# EAGLE library part YH-55-10 (library lpatiny)
RJ11 6 connects Source: YH-55-10.pdf
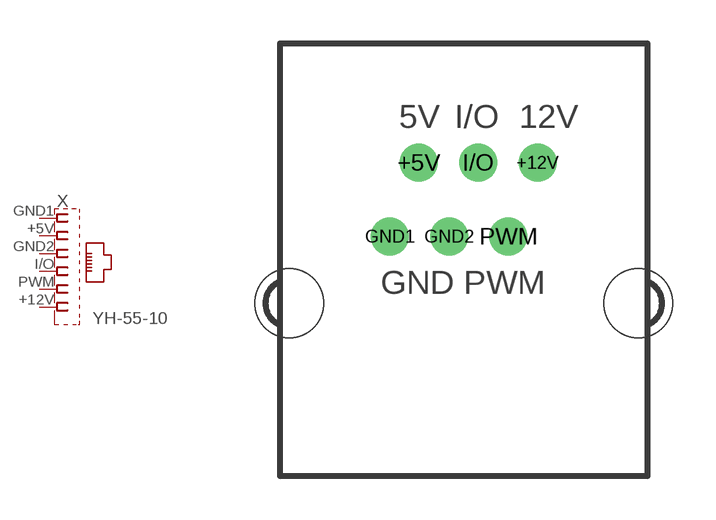
[diagram p0: symbol with the pads of RJ12-RIGHTANGLE; footprint RJ12-RIGHTANGLE]

Designator prefix X

## YH-55-10 (OC_FARNELL: unknown; OC_NEWARK: unknown)  [RJ12-RIGHTANGLE]
+5V  PWM  pas
+12V  GND1  pas
GND1  +12V  pas
GND2  I/O  pas
I/O  GND2  pas
PWM  +5V  pas

## Footprint RJ12-RIGHTANGLE (pad centres in mm)
RJ11 6 connects Source: YH-55-10.pdf
drill 0.8 pad 1.3: +5V -1.54,4.84; +12V 2.54,4.84; GND1 -2.54,2.3; GND2 -0.5,2.3; I/O 0.5,4.84; PWM 1.54,2.3
hole 2.36 at -6,0
hole 2.36 at 6,0